# Altium schematic symbol library LM2842.Schlib: 1 symbol
Pins are listed as number, name and electrical type; pins without a type are passive.

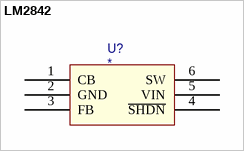
[diagram p0: symbol LM2842]

## LM2842
designator U?
pins: 1 CB, 2 GND, 3 FB, 4 ~{SHDN}, 5 VIN, 6 SW
1 alternate drawing of the same symbol